# EAGLE library part BQ2980 (library dawidkulpa_dev)
BQ2980xy Voltage, Current, Temperature Protectors with an Integrated High-Side NFET Driver for Fast/Flash Charging Single-Cell Li-Ion and Li-Polymer Batteries
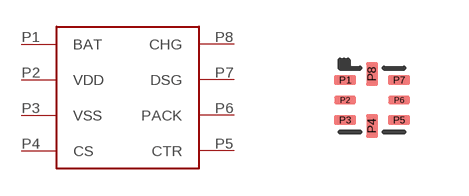
[diagram p20: symbol with the pads of X2QFN; footprint X2QFN]

Designator prefix -

## BQ2980  [X2QFN]
P1  BAT
P2  VDD
P3  VSS
P4  CS
P5  CTR
P6  PACK
P7  DSG
P8  CHG

## Footprint X2QFN (pad centres in mm)
smd 0.55 x 0.25: P1 -0.675,0.5; P3 -0.675,-0.5; P5 0.675,-0.5; P7 0.675,0.5
smd 0.55 x 0.2: P2 -0.675,0; P6 0.675,0
smd 0.3 x 0.6: P4 0,-0.65; P8 0,0.65